# EAGLE library part ST8R00WPUR (library ST8R00WPUR)
Conv DC-DC 4V to 6V Step Up Single-Out 6V to 12V 1A 8-Pin DFN T/R Source: Datasheet <https://www.st.com/resource/en/datasheet/st8r00.pdf>
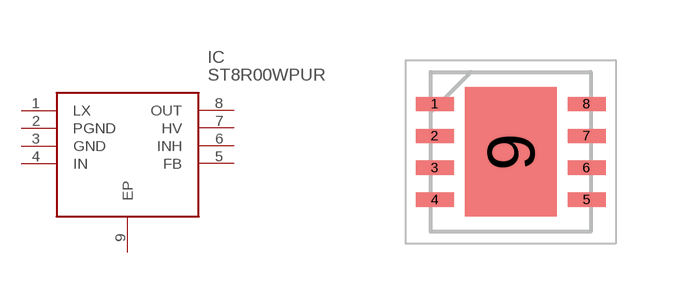
[diagram p0: symbol with the pads of SON80P400X400X100-9N; footprint SON80P400X400X100-9N]

Designator prefix IC

## ST8R00WPUR (Description: Conv DC-DC 4V to 6V Step Up Single-Out 6V to 12V 1A 8-Pin DFN T/R; Height: 1mm; Manufacturer_Name: STMicroelectronics; Manufacturer_Part_Number: ST8R00WPUR; Mouser_Part_Number: 511-ST8R00WPUR; Mouser_Price-Stock: https://www.mouser.co.uk/ProductDetail/STMicroelectronics/ST8R00WPUR?qs=VJaATVMq%252BXrX32beJDbIZA%3D%3D)  [SON80P400X400X100-9N]
1  LX
2  PGND
3  GND
4  IN
5  FB
6  INH
7  HV
8  OUT
9  EP

## Footprint SON80P400X400X100-9N (pad centres in mm)
8-Pin DFN T/R
smd 0.95 x 0.35: 1 -1.9,1.2; 2 -1.9,0.4; 3 -1.9,-0.4; 4 -1.9,-1.2; 5 1.9,-1.2; 6 1.9,-0.4; 7 1.9,0.4; 8 1.9,1.2
smd 2.3 x 3.23: 9 0,0